# Altium schematic symbol library SI7772DP-T1-GE3.SchLib: 1 symbol
Pins are listed as number, name and electrical type; pins without a type are passive.

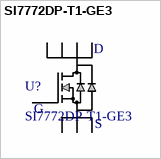
[diagram p0: symbol SI7772DP-T1-GE3]

## SI7772DP-T1-GE3
designator U?
N-CHANNEL 30-V (D-S) MOSFET W/SCHOTTKY; Manufacturer_Name: Vishay; Copyright: Copyright (C) 2025 Ultra Librarian. All rights reserved.; Manufacturer_Part_Number: SI7772DP-T1-GE3; Datasheet: https://www.vishay.com/doc?65169
footprint MOSFET_7DP-T1-GE3_VIS
pins: 1 S, 2 S, 3 S, 4 G, 5 D, 6 D, 7 D, 8 D